# EAGLE library part MICROBUILDER_JTAG-CORTEXM3 (library foxcar-control-board-v1)
Serial Wire (SW-DP) Connector This standard 0.05" 10-pin connector is for use with the Cortex M0/M3's native SWD (serial wire debugger) interface (SW-DP). Some boards support a 20-pin combined JTAG+SWD connector (SWJ-DP), such as the LPC1700 family, but many smaller devices only work with SWD which typically use the smaller 10-pin SW-DP connecter (the LPC1300 family, for example, only supports SWD). 2x05 1.27mm/0.05" Connector: This is the standard SMT connector defined by ARM for all Cortex devices, and should be used in most situations and for forward-compatibility since any new devices coming to market will likely use this connector. MOLEX 10 Pin 0.1" Connector: This 0.1" 10 pin connector has the same pin layout as the standard 0.05" connector, but is easier to work with if you are using standard jumper wires or custom cables to connect your SWD hardware. MOLEX 20 Pin 0.1" Connector: This 0.1" 20 pin connector is the same model used for ARM7/ARM9 JTAG debuggers, but is connected to match the pins on the Segger J-Link for ARM (which supports both JTAG and SWD debugging). See the following document from ARM for more information on Cortex M3 Debug Connectors: http://infocenter.arm.com/help/topic/com.arm.doc.faqs/attached/13634/cortex_debug_connectors.pdf And the following page for an overview with images of the different connector types: http://www.keil.com/peripherals/coresight/connectors.asp
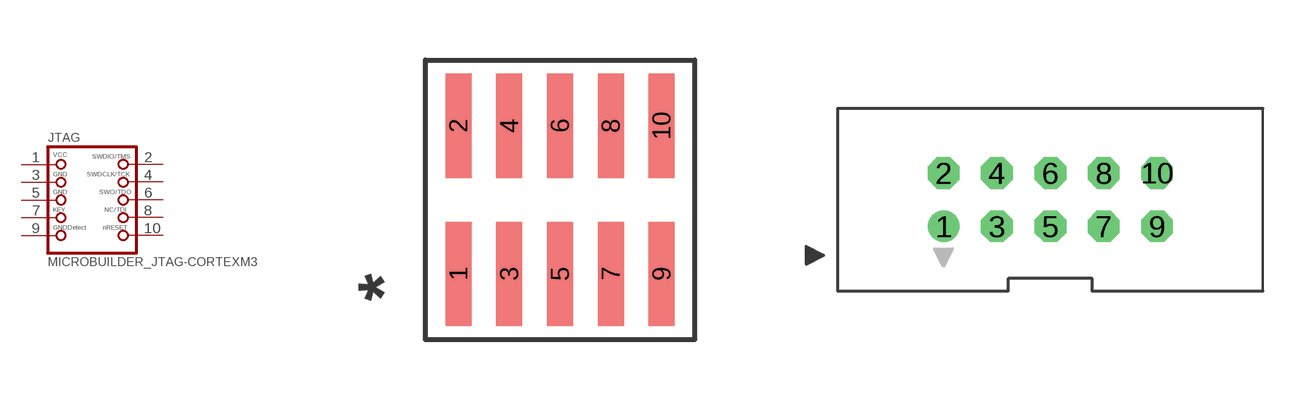
[diagram p8: symbol with the pads of MICROBUILDER_2X05_1.27MM_SMT; footprints MICROBUILDER_2X05_1.27MM_SMT, MICROBUILDER_CORTEXM3_SWD10_MOLEX]

Designator prefix JTAG

## MICROBUILDER_JTAG-CORTEXM3  [MICROBUILDER_2X05_1.27MM_SMT]
1  1  pas
2  2  pas
3  3  pas
4  4  pas
5  5  pas
6  6  pas
7  7  pas
8  8  pas
9  9  pas
10  10  pas

## MICROBUILDER_JTAG-CORTEXM3MOLEX  [MICROBUILDER_CORTEXM3_SWD10_MOLEX]
Pads as for MICROBUILDER_2X05_1.27MM_SMT

## MICROBUILDER_JTAG-CORTEXM3MOLEX20  [MICROBUILDER_JTAG-ARM]
1  1  pas
4  3  pas
6  5  pas
7  2  pas
8  9  pas
9  4  pas
10  7  pas
13  6  pas
15  10  pas
17  8  pas

## Footprint MICROBUILDER_2X05_1.27MM_SMT (pad centres in mm)
2x05 1.27mm Headers SMT (2.0mm Height) 4UConnector: 16846
smd 0.65 x 2.6: 1 -2.54,-1.85; 2 -2.54,1.85; 3 -1.27,-1.85; 4 -1.27,1.85; 5 0,-1.85; 6 0,1.85; 7 1.27,-1.85; 8 1.27,1.85; 9 2.54,-1.85; 10 2.54,1.85

## Footprint MICROBUILDER_CORTEXM3_SWD10_MOLEX (pad centres in mm)
10 Pin SWD Connector (Cortex M3) Note: Small tRestrict polygon's were added to the ground pads to improve solderability when this part is used in combination with a ground pour. By default, Eagle will product four large bridges to the ground pour significantly increasing the heat distribution on the pads and preventing lead-free solder from reflowing in certain situations. For more details, see: http://www.microbuilder.eu/Blog/09-12-14/Reducing_Thermals_for_Large_Pads_in_Eagle.aspx
drill 1: 1 -5.08,-1.27
drill 1 octagon: 2 -5.08,1.27; 3 -2.54,-1.27; 4 -2.54,1.27; 5 0,-1.27; 6 0,1.27; 7 2.54,-1.27; 8 2.54,1.27; 9 5.08,-1.27; 10 5.08,1.27

## Footprint MICROBUILDER_JTAG-ARM (pad centres in mm)
20 Pin JTAG Connector (ARM7, ARM9)
drill 1: 1 -11.43,-1.27
drill 1 octagon: 2 -11.43,1.27; 3 -8.89,-1.27; 4 -8.89,1.27; 5 -6.35,-1.27; 6 -6.35,1.27; 7 -3.81,-1.27; 8 -3.81,1.27; 9 -1.27,-1.27; 10 -1.27,1.27; 11 1.27,-1.27; 12 1.27,1.27; 13 3.81,-1.27; 14 3.81,1.27; 15 6.35,-1.27; 16 6.35,1.27; 17 8.89,-1.27; 18 8.89,1.27; 19 11.43,-1.27; 20 11.43,1.27